# Altium schematic symbol library PIC.SchLib: 1 symbol
Pins are listed as number, name and electrical type; pins without a type are passive.

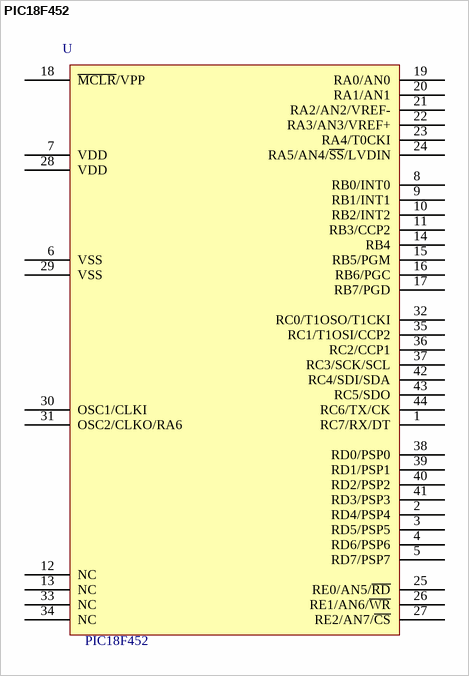
[diagram p0: symbol PIC18F452]

## PIC18F452
designator U  value PIC18F452  (hidden comment: *)
Manufacturer: MICROCHIP; Manufacturer Code: PIC18F452-I/PT; Farnell Code: 9762248; Unit Price: 7,53 €
footprint TQFP-44 (Footprint not found)
pins: 1 RC7/RX/DT, 2 RD4/PSP4, 3 RD5/PSP5, 4 RD6/PSP6, 5 RD7/PSP7, 6 VSS, 7 VDD, 8 RB0/INT0, 9 RB1/INT1, 10 RB2/INT2, 11 RB3/CCP2, 12 NC, 13 NC, 14 RB4, 15 RB5/PGM, 16 RB6/PGC, 17 RB7/PGD, 18 ~{MCLR}/VPP, 19 RA0/AN0, 20 RA1/AN1, 21 RA2/AN2/VREF-, 22 RA3/AN3/VREF+, 23 RA4/T0CKI, 24 RA5/AN4/~{SS}/LVDIN, 25 RE0/AN5/~{RD}, 26 RE1/AN6/~{WR}, 27 RE2/AN7/~{CS}, 28 VDD, 29 VSS, 30 OSC1/CLKI, 31 OSC2/CLKO/RA6, 32 RC0/T1OSO/T1CKI, 33 NC, 34 NC, 35 RC1/T1OSI/CCP2, 36 RC2/CCP1, 37 RC3/SCK/SCL, 38 RD0/PSP0, 39 RD1/PSP1, 40 RD2/PSP2, 41 RD3/PSP3, 42 RC4/SDI/SDA, 43 RC5/SDO, 44 RC6/TX/CK